# Altium schematic symbol library 74HC4052D.SchLib: 1 symbol
Pins are listed as number, name and electrical type; pins without a type are passive.

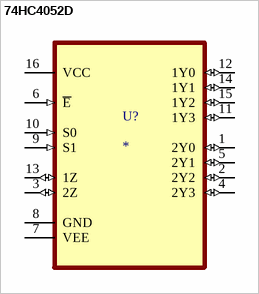
[diagram p0: symbol 74HC4052D]

## 74HC4052D
designator U?
2 Circuit IC Switch 4:1 130Ohm 16-SOIC; MF: Toshiba; MP: 74HC4052D; SnapEDA_Link: https://www.snapeda.com/parts/74HC4052D/Toshiba/view-part/?ref=snap; Package: SOIC-16 NXP Semiconductors; Value: *; Check_prices: https://www.snapeda.com/parts/74HC4052D/Toshiba/view-part/?ref=eda
footprint SOIC127P600X175-16N
pins: 1 2Y0 (io), 2 2Y2 (io), 3 2Z (io), 4 2Y3 (io), 5 2Y1 (io), 6 ~{E} (in), 7 VEE (power), 8 GND, 9 S1 (in), 10 S0 (in), 11 1Y3 (io), 12 1Y0 (io), 13 1Z (io), 14 1Y1 (io), 15 1Y2 (io), 16 VCC (power)